# Altium integrated library Cypress Memory Static RAM.IntLib: 171 symbols (part 6 of 7)
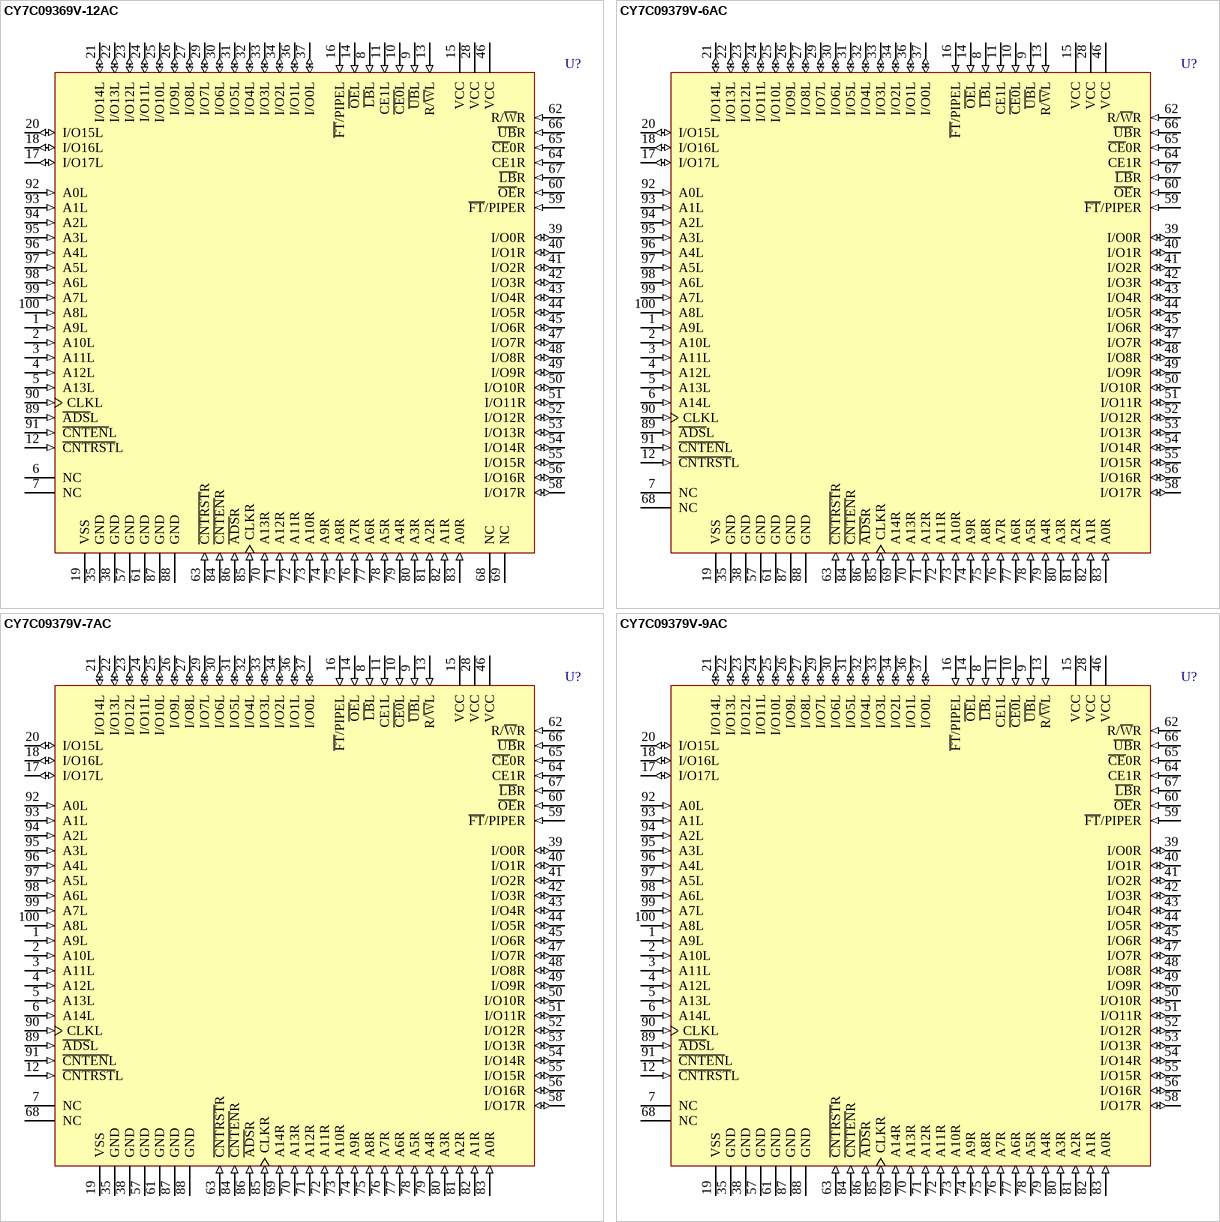
[diagram p30: symbols CY7C09369V-12AC to CY7C09379V-9AC]

## CY7C09379V-7AC
designator U?
3.3V 32K x 18 Synchronous Dual-Port Static RAM; Published: 11-Dec-2002; LatestRevisionDate: 13-Apr-2006; LatestRevisionNote: IPC-7351 Footprint Added.; DatasheetVersion: 2-Feb-2001; PackageVersion: Mar-2001; PackageReference: A100; Publisher: Altium Limited; PackageDescription: 100-Pin Thin Quad Flat Pack 0.5 mm Pitch; ComponentLink1Description: Manufacturer Link; ComponentLink1URL: http://www.cypress.com/; ComponentLink2Description: Datasheet; ComponentLink2URL: http://www.cypress.com/portal/server.pt/gateway/PTARGS_0_2_1524_209_259_43/http%3B/sjapp20.mis.cypress.com%3B7001/publishedcontent/publish/design_resources/datasheets/contents/cy7c09269v_5.pdf
footprint A100_N (Thin QFP, 100-Leads, Body 14x14mm, Pitch 0.5mm, IPC Medium Density)
footprint A100_L (Thin QFP, 100-Leads, Body 14x14mm, Pitch 0.5mm, IPC High Density)
footprint A100_M (Thin QFP, 100-Leads, Body 14x14mm, Pitch 0.5mm, IPC Low Density)
3D model CY7C09379V-A100 (100-Pin Thin Quad Flat Pack 0.5 mm Pitch)
pins: 1 A9L (in), 2 A10L (in), 3 A11L (in), 4 A12L (in), 5 A13L (in), 6 A14L (in), 7 NC, 8 ~{LB}L (in), 9 ~{UB}L (in), 10 ~{CE0}L (in), 11 CE1L (in), 12 ~{CNTRST}L (in), 13 R/~{W}L (in), 14 ~{OE}L (in), 15 VCC (power), 16 ~{FT}/PIPEL (in), 17 I/O17L (io), 18 I/O16L (io), 19 VSS (power), 20 I/O15L (io), 21 I/O14L (io), 22 I/O13L (io), 23 I/O12L (io), 24 I/O11L (io), 25 I/O10L (io), 26 I/O9L (io), 27 I/O8L (io), 28 VCC (power), 29 I/O7L (io), 30 I/O6L (io), 31 I/O5L (io), 32 I/O4L (io), 33 I/O3L (io), 34 I/O2L (io), 35 GND (power), 36 I/O1L (io), 37 I/O0L (io), 38 GND (power), 39 I/O0R (io), 40 I/O1R (io), 41 I/O2R (io), 42 I/O3R (io), 43 I/O4R (io), 44 I/O5R (io), 45 I/O6R (io), 46 VCC (power), 47 I/O7R (io), 48 I/O8R (io), 49 I/O9R (io), 50 I/O10R (io), 51 I/O11R (io), 52 I/O12R (io), 53 I/O13R (io), 54 I/O14R (io), 55 I/O15R (io), 56 I/O16R (io), 57 GND (power), 58 I/O17R (io), 59 ~{FT}/PIPER (in), 60 ~{OE}R (in), 61 GND (power), 62 R/~{W}R (in), 63 ~{CNTRST}R (in), 64 CE1R (in), 65 ~{CE}0R (in), 66 ~{UB}R (in), 67 ~{LB}R (in), 68 NC, 69 A14R (in), 70 A13R (in), 71 A12R (in), 72 A11R (in), 73 A10R (in), 74 A9R (in), 75 A8R (in), 76 A7R (in), 77 A6R (in), 78 A5R (in), 79 A4R (in), 80 A3R (in), 81 A2R (in), 82 A1R (in), 83 A0R (in), 84 ~{CNTEN}R (in), 85 CLKR (in), 86 ~{ADS}R (in), 87 GND (power), 88 GND (power), 89 ~{ADS}L (in), 90 CLKL (in), 91 ~{CNTEN}L (in), 92 A0L (in), 93 A1L (in), 94 A2L (in), 95 A3L (in), 96 A4L (in), 97 A5L (in), 98 A6L (in), 99 A7L (in), 100 A8L (in)

## CY7C09379V-9AC
designator U?
3.3V 32K x 18 Synchronous Dual-Port Static RAM; Published: 11-Dec-2002; LatestRevisionDate: 13-Apr-2006; LatestRevisionNote: IPC-7351 Footprint Added.; DatasheetVersion: 2-Feb-2001; PackageVersion: Mar-2001; PackageReference: A100; Publisher: Altium Limited; PackageDescription: 100-Pin Thin Quad Flat Pack 0.5 mm Pitch; ComponentLink1Description: Manufacturer Link; ComponentLink1URL: http://www.cypress.com/; ComponentLink2Description: Datasheet; ComponentLink2URL: http://www.cypress.com/portal/server.pt/gateway/PTARGS_0_2_1524_209_259_43/http%3B/sjapp20.mis.cypress.com%3B7001/publishedcontent/publish/design_resources/datasheets/contents/cy7c09269v_5.pdf
footprint A100_N (Thin QFP, 100-Leads, Body 14x14mm, Pitch 0.5mm, IPC Medium Density)
footprint A100_L (Thin QFP, 100-Leads, Body 14x14mm, Pitch 0.5mm, IPC High Density)
footprint A100_M (Thin QFP, 100-Leads, Body 14x14mm, Pitch 0.5mm, IPC Low Density)
3D model CY7C09379V-A100 (100-Pin Thin Quad Flat Pack 0.5 mm Pitch)
pins: 1 A9L (in), 2 A10L (in), 3 A11L (in), 4 A12L (in), 5 A13L (in), 6 A14L (in), 7 NC, 8 ~{LB}L (in), 9 ~{UB}L (in), 10 ~{CE0}L (in), 11 CE1L (in), 12 ~{CNTRST}L (in), 13 R/~{W}L (in), 14 ~{OE}L (in), 15 VCC (power), 16 ~{FT}/PIPEL (in), 17 I/O17L (io), 18 I/O16L (io), 19 VSS (power), 20 I/O15L (io), 21 I/O14L (io), 22 I/O13L (io), 23 I/O12L (io), 24 I/O11L (io), 25 I/O10L (io), 26 I/O9L (io), 27 I/O8L (io), 28 VCC (power), 29 I/O7L (io), 30 I/O6L (io), 31 I/O5L (io), 32 I/O4L (io), 33 I/O3L (io), 34 I/O2L (io), 35 GND (power), 36 I/O1L (io), 37 I/O0L (io), 38 GND (power), 39 I/O0R (io), 40 I/O1R (io), 41 I/O2R (io), 42 I/O3R (io), 43 I/O4R (io), 44 I/O5R (io), 45 I/O6R (io), 46 VCC (power), 47 I/O7R (io), 48 I/O8R (io), 49 I/O9R (io), 50 I/O10R (io), 51 I/O11R (io), 52 I/O12R (io), 53 I/O13R (io), 54 I/O14R (io), 55 I/O15R (io), 56 I/O16R (io), 57 GND (power), 58 I/O17R (io), 59 ~{FT}/PIPER (in), 60 ~{OE}R (in), 61 GND (power), 62 R/~{W}R (in), 63 ~{CNTRST}R (in), 64 CE1R (in), 65 ~{CE}0R (in), 66 ~{UB}R (in), 67 ~{LB}R (in), 68 NC, 69 A14R (in), 70 A13R (in), 71 A12R (in), 72 A11R (in), 73 A10R (in), 74 A9R (in), 75 A8R (in), 76 A7R (in), 77 A6R (in), 78 A5R (in), 79 A4R (in), 80 A3R (in), 81 A2R (in), 82 A1R (in), 83 A0R (in), 84 ~{CNTEN}R (in), 85 CLKR (in), 86 ~{ADS}R (in), 87 GND (power), 88 GND (power), 89 ~{ADS}L (in), 90 CLKL (in), 91 ~{CNTEN}L (in), 92 A0L (in), 93 A1L (in), 94 A2L (in), 95 A3L (in), 96 A4L (in), 97 A5L (in), 98 A6L (in), 99 A7L (in), 100 A8L (in)

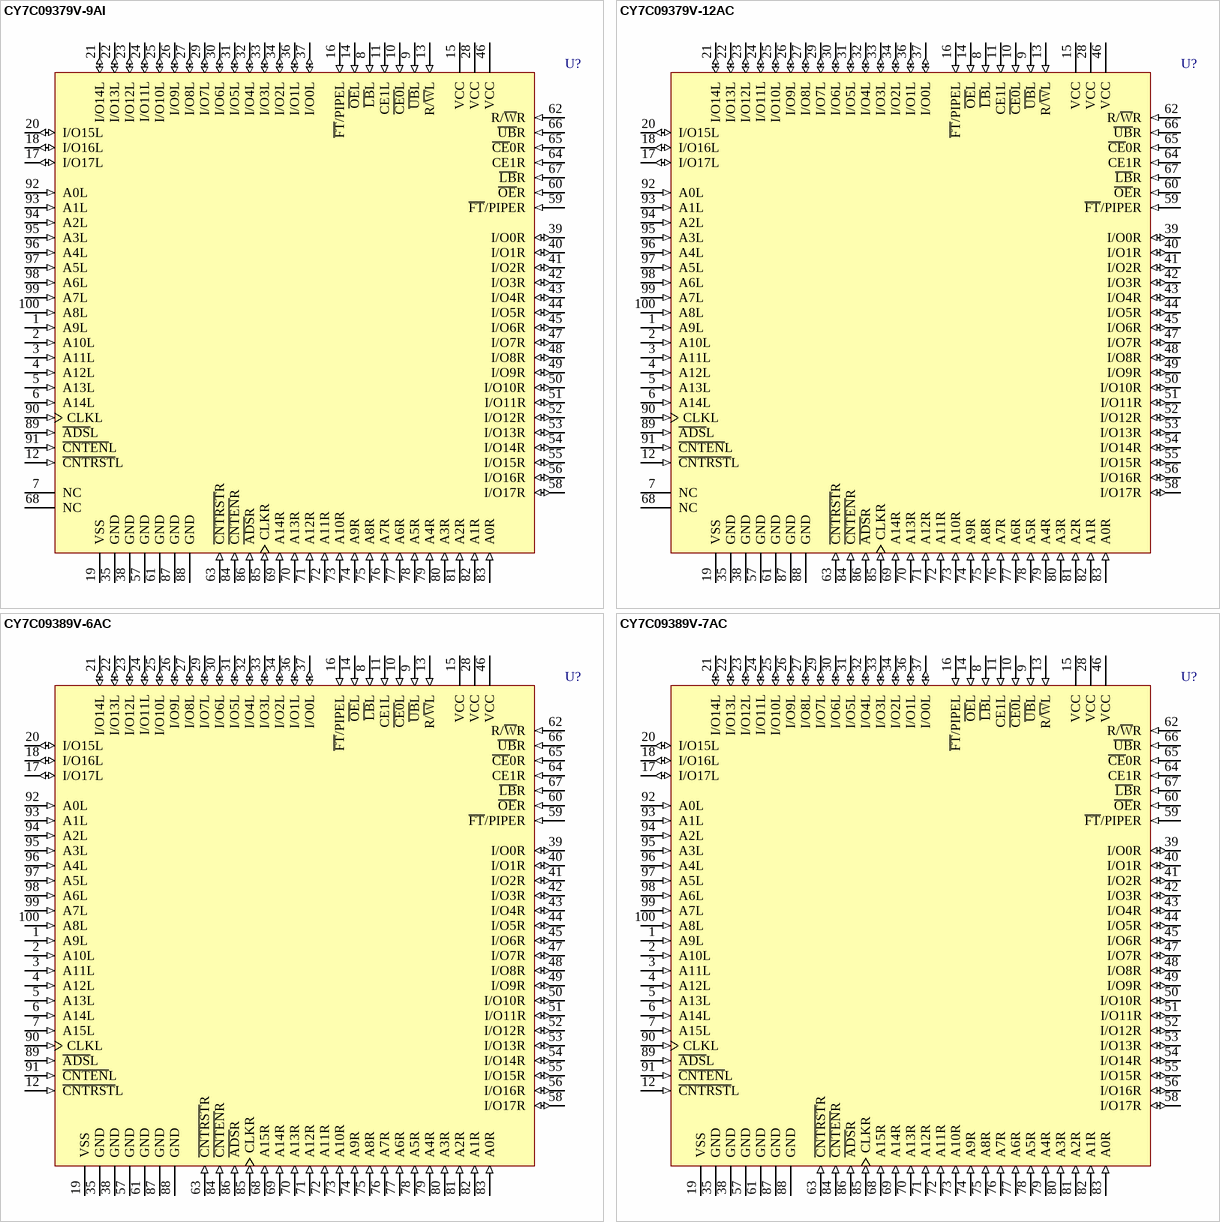
[diagram p22: symbols CY7C09379V-9AI to CY7C09389V-7AC]

## CY7C09379V-9AI
designator U?
3.3V 32K x 18 Synchronous Dual-Port Static RAM; Published: 11-Dec-2002; LatestRevisionDate: 13-Apr-2006; LatestRevisionNote: IPC-7351 Footprint Added.; DatasheetVersion: 2-Feb-2001; PackageVersion: Mar-2001; PackageReference: A100; Publisher: Altium Limited; PackageDescription: 100-Pin Thin Quad Flat Pack 0.5 mm Pitch; ComponentLink1Description: Manufacturer Link; ComponentLink1URL: http://www.cypress.com/; ComponentLink2Description: Datasheet; ComponentLink2URL: http://www.cypress.com/portal/server.pt/gateway/PTARGS_0_2_1524_209_259_43/http%3B/sjapp20.mis.cypress.com%3B7001/publishedcontent/publish/design_resources/datasheets/contents/cy7c09269v_5.pdf
footprint A100_N (Thin QFP, 100-Leads, Body 14x14mm, Pitch 0.5mm, IPC Medium Density)
footprint A100_L (Thin QFP, 100-Leads, Body 14x14mm, Pitch 0.5mm, IPC High Density)
footprint A100_M (Thin QFP, 100-Leads, Body 14x14mm, Pitch 0.5mm, IPC Low Density)
3D model CY7C09379V-A100 (100-Pin Thin Quad Flat Pack 0.5 mm Pitch)
pins: 1 A9L (in), 2 A10L (in), 3 A11L (in), 4 A12L (in), 5 A13L (in), 6 A14L (in), 7 NC, 8 ~{LB}L (in), 9 ~{UB}L (in), 10 ~{CE0}L (in), 11 CE1L (in), 12 ~{CNTRST}L (in), 13 R/~{W}L (in), 14 ~{OE}L (in), 15 VCC (power), 16 ~{FT}/PIPEL (in), 17 I/O17L (io), 18 I/O16L (io), 19 VSS (power), 20 I/O15L (io), 21 I/O14L (io), 22 I/O13L (io), 23 I/O12L (io), 24 I/O11L (io), 25 I/O10L (io), 26 I/O9L (io), 27 I/O8L (io), 28 VCC (power), 29 I/O7L (io), 30 I/O6L (io), 31 I/O5L (io), 32 I/O4L (io), 33 I/O3L (io), 34 I/O2L (io), 35 GND (power), 36 I/O1L (io), 37 I/O0L (io), 38 GND (power), 39 I/O0R (io), 40 I/O1R (io), 41 I/O2R (io), 42 I/O3R (io), 43 I/O4R (io), 44 I/O5R (io), 45 I/O6R (io), 46 VCC (power), 47 I/O7R (io), 48 I/O8R (io), 49 I/O9R (io), 50 I/O10R (io), 51 I/O11R (io), 52 I/O12R (io), 53 I/O13R (io), 54 I/O14R (io), 55 I/O15R (io), 56 I/O16R (io), 57 GND (power), 58 I/O17R (io), 59 ~{FT}/PIPER (in), 60 ~{OE}R (in), 61 GND (power), 62 R/~{W}R (in), 63 ~{CNTRST}R (in), 64 CE1R (in), 65 ~{CE}0R (in), 66 ~{UB}R (in), 67 ~{LB}R (in), 68 NC, 69 A14R (in), 70 A13R (in), 71 A12R (in), 72 A11R (in), 73 A10R (in), 74 A9R (in), 75 A8R (in), 76 A7R (in), 77 A6R (in), 78 A5R (in), 79 A4R (in), 80 A3R (in), 81 A2R (in), 82 A1R (in), 83 A0R (in), 84 ~{CNTEN}R (in), 85 CLKR (in), 86 ~{ADS}R (in), 87 GND (power), 88 GND (power), 89 ~{ADS}L (in), 90 CLKL (in), 91 ~{CNTEN}L (in), 92 A0L (in), 93 A1L (in), 94 A2L (in), 95 A3L (in), 96 A4L (in), 97 A5L (in), 98 A6L (in), 99 A7L (in), 100 A8L (in)

## CY7C09379V-12AC
designator U?
3.3V 32K x 18 Synchronous Dual-Port Static RAM; Published: 11-Dec-2002; LatestRevisionDate: 13-Apr-2006; LatestRevisionNote: IPC-7351 Footprint Added.; DatasheetVersion: 2-Feb-2001; PackageVersion: Mar-2001; PackageReference: A100; Publisher: Altium Limited; PackageDescription: 100-Pin Thin Quad Flat Pack 0.5 mm Pitch; ComponentLink1Description: Manufacturer Link; ComponentLink1URL: http://www.cypress.com/; ComponentLink2Description: Datasheet; ComponentLink2URL: http://www.cypress.com/portal/server.pt/gateway/PTARGS_0_2_1524_209_259_43/http%3B/sjapp20.mis.cypress.com%3B7001/publishedcontent/publish/design_resources/datasheets/contents/cy7c09269v_5.pdf
footprint A100_N (Thin QFP, 100-Leads, Body 14x14mm, Pitch 0.5mm, IPC Medium Density)
footprint A100_L (Thin QFP, 100-Leads, Body 14x14mm, Pitch 0.5mm, IPC High Density)
footprint A100_M (Thin QFP, 100-Leads, Body 14x14mm, Pitch 0.5mm, IPC Low Density)
3D model CY7C09379V-A100 (100-Pin Thin Quad Flat Pack 0.5 mm Pitch)
pins: 1 A9L (in), 2 A10L (in), 3 A11L (in), 4 A12L (in), 5 A13L (in), 6 A14L (in), 7 NC, 8 ~{LB}L (in), 9 ~{UB}L (in), 10 ~{CE0}L (in), 11 CE1L (in), 12 ~{CNTRST}L (in), 13 R/~{W}L (in), 14 ~{OE}L (in), 15 VCC (power), 16 ~{FT}/PIPEL (in), 17 I/O17L (io), 18 I/O16L (io), 19 VSS (power), 20 I/O15L (io), 21 I/O14L (io), 22 I/O13L (io), 23 I/O12L (io), 24 I/O11L (io), 25 I/O10L (io), 26 I/O9L (io), 27 I/O8L (io), 28 VCC (power), 29 I/O7L (io), 30 I/O6L (io), 31 I/O5L (io), 32 I/O4L (io), 33 I/O3L (io), 34 I/O2L (io), 35 GND (power), 36 I/O1L (io), 37 I/O0L (io), 38 GND (power), 39 I/O0R (io), 40 I/O1R (io), 41 I/O2R (io), 42 I/O3R (io), 43 I/O4R (io), 44 I/O5R (io), 45 I/O6R (io), 46 VCC (power), 47 I/O7R (io), 48 I/O8R (io), 49 I/O9R (io), 50 I/O10R (io), 51 I/O11R (io), 52 I/O12R (io), 53 I/O13R (io), 54 I/O14R (io), 55 I/O15R (io), 56 I/O16R (io), 57 GND (power), 58 I/O17R (io), 59 ~{FT}/PIPER (in), 60 ~{OE}R (in), 61 GND (power), 62 R/~{W}R (in), 63 ~{CNTRST}R (in), 64 CE1R (in), 65 ~{CE}0R (in), 66 ~{UB}R (in), 67 ~{LB}R (in), 68 NC, 69 A14R (in), 70 A13R (in), 71 A12R (in), 72 A11R (in), 73 A10R (in), 74 A9R (in), 75 A8R (in), 76 A7R (in), 77 A6R (in), 78 A5R (in), 79 A4R (in), 80 A3R (in), 81 A2R (in), 82 A1R (in), 83 A0R (in), 84 ~{CNTEN}R (in), 85 CLKR (in), 86 ~{ADS}R (in), 87 GND (power), 88 GND (power), 89 ~{ADS}L (in), 90 CLKL (in), 91 ~{CNTEN}L (in), 92 A0L (in), 93 A1L (in), 94 A2L (in), 95 A3L (in), 96 A4L (in), 97 A5L (in), 98 A6L (in), 99 A7L (in), 100 A8L (in)

## CY7C09389V-6AC
designator U?
3.3V 64K x 18 Synchronous Dual-Port Static RAM; Published: 11-Dec-2002; LatestRevisionDate: 13-Apr-2006; LatestRevisionNote: IPC-7351 Footprint Added.; DatasheetVersion: 2-Feb-2001; PackageVersion: Mar-2001; PackageReference: A100; Publisher: Altium Limited; PackageDescription: 100-Pin Thin Quad Flat Pack 0.5 mm Pitch; ComponentLink1Description: Manufacturer Link; ComponentLink1URL: http://www.cypress.com/; ComponentLink2Description: Datasheet; ComponentLink2URL: http://www.cypress.com/portal/server.pt/gateway/PTARGS_0_2_1524_209_259_43/http%3B/sjapp20.mis.cypress.com%3B7001/publishedcontent/publish/design_resources/datasheets/contents/cy7c09269v_5.pdf
footprint A100_N (Thin QFP, 100-Leads, Body 14x14mm, Pitch 0.5mm, IPC Medium Density)
footprint A100_L (Thin QFP, 100-Leads, Body 14x14mm, Pitch 0.5mm, IPC High Density)
footprint A100_M (Thin QFP, 100-Leads, Body 14x14mm, Pitch 0.5mm, IPC Low Density)
3D model CY7C09389V-A100 (100-Pin Thin Quad Flat Pack 0.5 mm Pitch)
pins: 1 A9L (in), 2 A10L (in), 3 A11L (in), 4 A12L (in), 5 A13L (in), 6 A14L (in), 7 A15L (in), 8 ~{LB}L (in), 9 ~{UB}L (in), 10 ~{CE0}L (in), 11 CE1L (in), 12 ~{CNTRST}L (in), 13 R/~{W}L (in), 14 ~{OE}L (in), 15 VCC (power), 16 ~{FT}/PIPEL (in), 17 I/O17L (io), 18 I/O16L (io), 19 VSS (power), 20 I/O15L (io), 21 I/O14L (io), 22 I/O13L (io), 23 I/O12L (io), 24 I/O11L (io), 25 I/O10L (io), 26 I/O9L (io), 27 I/O8L (io), 28 VCC (power), 29 I/O7L (io), 30 I/O6L (io), 31 I/O5L (io), 32 I/O4L (io), 33 I/O3L (io), 34 I/O2L (io), 35 GND (power), 36 I/O1L (io), 37 I/O0L (io), 38 GND (power), 39 I/O0R (io), 40 I/O1R (io), 41 I/O2R (io), 42 I/O3R (io), 43 I/O4R (io), 44 I/O5R (io), 45 I/O6R (io), 46 VCC (power), 47 I/O7R (io), 48 I/O8R (io), 49 I/O9R (io), 50 I/O10R (io), 51 I/O11R (io), 52 I/O12R (io), 53 I/O13R (io), 54 I/O14R (io), 55 I/O15R (io), 56 I/O16R (io), 57 GND (power), 58 I/O17R (io), 59 ~{FT}/PIPER (in), 60 ~{OE}R (in), 61 GND (power), 62 R/~{W}R (in), 63 ~{CNTRST}R (in), 64 CE1R (in), 65 ~{CE}0R (in), 66 ~{UB}R (in), 67 ~{LB}R (in), 68 A15R (in), 69 A14R (in), 70 A13R (in), 71 A12R (in), 72 A11R (in), 73 A10R (in), 74 A9R (in), 75 A8R (in), 76 A7R (in), 77 A6R (in), 78 A5R (in), 79 A4R (in), 80 A3R (in), 81 A2R (in), 82 A1R (in), 83 A0R (in), 84 ~{CNTEN}R (in), 85 CLKR (in), 86 ~{ADS}R (in), 87 GND (power), 88 GND (power), 89 ~{ADS}L (in), 90 CLKL (in), 91 ~{CNTEN}L (in), 92 A0L (in), 93 A1L (in), 94 A2L (in), 95 A3L (in), 96 A4L (in), 97 A5L (in), 98 A6L (in), 99 A7L (in), 100 A8L (in)

## CY7C09389V-7AC
designator U?
3.3V 64K x 18 Synchronous Dual-Port Static RAM; Published: 11-Dec-2002; LatestRevisionDate: 13-Apr-2006; LatestRevisionNote: IPC-7351 Footprint Added.; DatasheetVersion: 2-Feb-2001; PackageVersion: Mar-2001; PackageReference: A100; Publisher: Altium Limited; PackageDescription: 100-Pin Thin Quad Flat Pack 0.5 mm Pitch; ComponentLink1Description: Manufacturer Link; ComponentLink1URL: http://www.cypress.com/; ComponentLink2Description: Datasheet; ComponentLink2URL: http://www.cypress.com/portal/server.pt/gateway/PTARGS_0_2_1524_209_259_43/http%3B/sjapp20.mis.cypress.com%3B7001/publishedcontent/publish/design_resources/datasheets/contents/cy7c09269v_5.pdf
footprint A100_N (Thin QFP, 100-Leads, Body 14x14mm, Pitch 0.5mm, IPC Medium Density)
footprint A100_L (Thin QFP, 100-Leads, Body 14x14mm, Pitch 0.5mm, IPC High Density)
footprint A100_M (Thin QFP, 100-Leads, Body 14x14mm, Pitch 0.5mm, IPC Low Density)
3D model CY7C09389V-A100 (100-Pin Thin Quad Flat Pack 0.5 mm Pitch)
pins: 1 A9L (in), 2 A10L (in), 3 A11L (in), 4 A12L (in), 5 A13L (in), 6 A14L (in), 7 A15L (in), 8 ~{LB}L (in), 9 ~{UB}L (in), 10 ~{CE0}L (in), 11 CE1L (in), 12 ~{CNTRST}L (in), 13 R/~{W}L (in), 14 ~{OE}L (in), 15 VCC (power), 16 ~{FT}/PIPEL (in), 17 I/O17L (io), 18 I/O16L (io), 19 VSS (power), 20 I/O15L (io), 21 I/O14L (io), 22 I/O13L (io), 23 I/O12L (io), 24 I/O11L (io), 25 I/O10L (io), 26 I/O9L (io), 27 I/O8L (io), 28 VCC (power), 29 I/O7L (io), 30 I/O6L (io), 31 I/O5L (io), 32 I/O4L (io), 33 I/O3L (io), 34 I/O2L (io), 35 GND (power), 36 I/O1L (io), 37 I/O0L (io), 38 GND (power), 39 I/O0R (io), 40 I/O1R (io), 41 I/O2R (io), 42 I/O3R (io), 43 I/O4R (io), 44 I/O5R (io), 45 I/O6R (io), 46 VCC (power), 47 I/O7R (io), 48 I/O8R (io), 49 I/O9R (io), 50 I/O10R (io), 51 I/O11R (io), 52 I/O12R (io), 53 I/O13R (io), 54 I/O14R (io), 55 I/O15R (io), 56 I/O16R (io), 57 GND (power), 58 I/O17R (io), 59 ~{FT}/PIPER (in), 60 ~{OE}R (in), 61 GND (power), 62 R/~{W}R (in), 63 ~{CNTRST}R (in), 64 CE1R (in), 65 ~{CE}0R (in), 66 ~{UB}R (in), 67 ~{LB}R (in), 68 A15R (in), 69 A14R (in), 70 A13R (in), 71 A12R (in), 72 A11R (in), 73 A10R (in), 74 A9R (in), 75 A8R (in), 76 A7R (in), 77 A6R (in), 78 A5R (in), 79 A4R (in), 80 A3R (in), 81 A2R (in), 82 A1R (in), 83 A0R (in), 84 ~{CNTEN}R (in), 85 CLKR (in), 86 ~{ADS}R (in), 87 GND (power), 88 GND (power), 89 ~{ADS}L (in), 90 CLKL (in), 91 ~{CNTEN}L (in), 92 A0L (in), 93 A1L (in), 94 A2L (in), 95 A3L (in), 96 A4L (in), 97 A5L (in), 98 A6L (in), 99 A7L (in), 100 A8L (in)

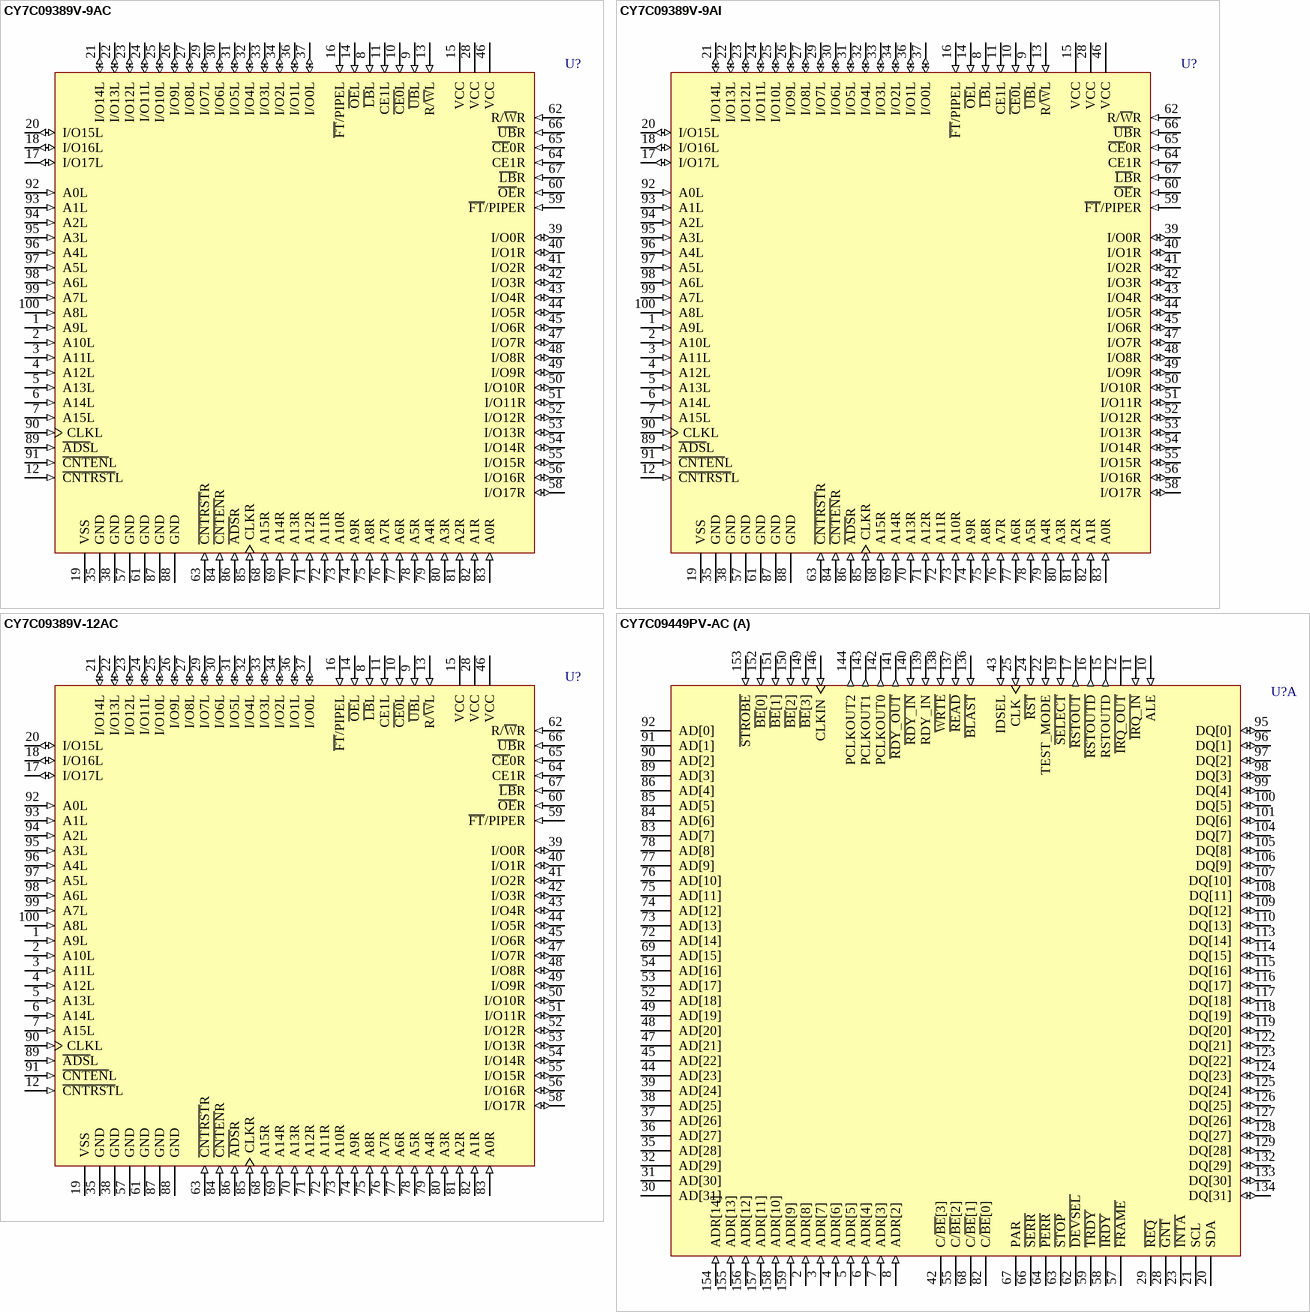
[diagram p23: symbols CY7C09389V-9AC to CY7C09449PV-AC]

## CY7C09389V-9AC
designator U?
3.3V 64K x 18 Synchronous Dual-Port Static RAM; Published: 11-Dec-2002; LatestRevisionDate: 13-Apr-2006; LatestRevisionNote: IPC-7351 Footprint Added.; DatasheetVersion: 2-Feb-2001; PackageVersion: Mar-2001; PackageReference: A100; Publisher: Altium Limited; PackageDescription: 100-Pin Thin Quad Flat Pack 0.5 mm Pitch; ComponentLink1Description: Manufacturer Link; ComponentLink1URL: http://www.cypress.com/; ComponentLink2Description: Datasheet; ComponentLink2URL: http://www.cypress.com/portal/server.pt/gateway/PTARGS_0_2_1524_209_259_43/http%3B/sjapp20.mis.cypress.com%3B7001/publishedcontent/publish/design_resources/datasheets/contents/cy7c09269v_5.pdf
footprint A100_N (Thin QFP, 100-Leads, Body 14x14mm, Pitch 0.5mm, IPC Medium Density)
footprint A100_L (Thin QFP, 100-Leads, Body 14x14mm, Pitch 0.5mm, IPC High Density)
footprint A100_M (Thin QFP, 100-Leads, Body 14x14mm, Pitch 0.5mm, IPC Low Density)
3D model CY7C09389V-A100 (100-Pin Thin Quad Flat Pack 0.5 mm Pitch)
pins: 1 A9L (in), 2 A10L (in), 3 A11L (in), 4 A12L (in), 5 A13L (in), 6 A14L (in), 7 A15L (in), 8 ~{LB}L (in), 9 ~{UB}L (in), 10 ~{CE0}L (in), 11 CE1L (in), 12 ~{CNTRST}L (in), 13 R/~{W}L (in), 14 ~{OE}L (in), 15 VCC (power), 16 ~{FT}/PIPEL (in), 17 I/O17L (io), 18 I/O16L (io), 19 VSS (power), 20 I/O15L (io), 21 I/O14L (io), 22 I/O13L (io), 23 I/O12L (io), 24 I/O11L (io), 25 I/O10L (io), 26 I/O9L (io), 27 I/O8L (io), 28 VCC (power), 29 I/O7L (io), 30 I/O6L (io), 31 I/O5L (io), 32 I/O4L (io), 33 I/O3L (io), 34 I/O2L (io), 35 GND (power), 36 I/O1L (io), 37 I/O0L (io), 38 GND (power), 39 I/O0R (io), 40 I/O1R (io), 41 I/O2R (io), 42 I/O3R (io), 43 I/O4R (io), 44 I/O5R (io), 45 I/O6R (io), 46 VCC (power), 47 I/O7R (io), 48 I/O8R (io), 49 I/O9R (io), 50 I/O10R (io), 51 I/O11R (io), 52 I/O12R (io), 53 I/O13R (io), 54 I/O14R (io), 55 I/O15R (io), 56 I/O16R (io), 57 GND (power), 58 I/O17R (io), 59 ~{FT}/PIPER (in), 60 ~{OE}R (in), 61 GND (power), 62 R/~{W}R (in), 63 ~{CNTRST}R (in), 64 CE1R (in), 65 ~{CE}0R (in), 66 ~{UB}R (in), 67 ~{LB}R (in), 68 A15R (in), 69 A14R (in), 70 A13R (in), 71 A12R (in), 72 A11R (in), 73 A10R (in), 74 A9R (in), 75 A8R (in), 76 A7R (in), 77 A6R (in), 78 A5R (in), 79 A4R (in), 80 A3R (in), 81 A2R (in), 82 A1R (in), 83 A0R (in), 84 ~{CNTEN}R (in), 85 CLKR (in), 86 ~{ADS}R (in), 87 GND (power), 88 GND (power), 89 ~{ADS}L (in), 90 CLKL (in), 91 ~{CNTEN}L (in), 92 A0L (in), 93 A1L (in), 94 A2L (in), 95 A3L (in), 96 A4L (in), 97 A5L (in), 98 A6L (in), 99 A7L (in), 100 A8L (in)

## CY7C09389V-9AI
designator U?
3.3V 64K x 18 Synchronous Dual-Port Static RAM; Published: 11-Dec-2002; LatestRevisionDate: 13-Apr-2006; LatestRevisionNote: IPC-7351 Footprint Added.; DatasheetVersion: 2-Feb-2001; PackageVersion: Mar-2001; PackageReference: A100; Publisher: Altium Limited; PackageDescription: 100-Pin Thin Quad Flat Pack 0.5 mm Pitch; ComponentLink1Description: Manufacturer Link; ComponentLink1URL: http://www.cypress.com/; ComponentLink2Description: Datasheet; ComponentLink2URL: http://www.cypress.com/portal/server.pt/gateway/PTARGS_0_2_1524_209_259_43/http%3B/sjapp20.mis.cypress.com%3B7001/publishedcontent/publish/design_resources/datasheets/contents/cy7c09269v_5.pdf
footprint A100_N (Thin QFP, 100-Leads, Body 14x14mm, Pitch 0.5mm, IPC Medium Density)
footprint A100_L (Thin QFP, 100-Leads, Body 14x14mm, Pitch 0.5mm, IPC High Density)
footprint A100_M (Thin QFP, 100-Leads, Body 14x14mm, Pitch 0.5mm, IPC Low Density)
3D model CY7C09389V-A100 (100-Pin Thin Quad Flat Pack 0.5 mm Pitch)
pins: 1 A9L (in), 2 A10L (in), 3 A11L (in), 4 A12L (in), 5 A13L (in), 6 A14L (in), 7 A15L (in), 8 ~{LB}L (in), 9 ~{UB}L (in), 10 ~{CE0}L (in), 11 CE1L (in), 12 ~{CNTRST}L (in), 13 R/~{W}L (in), 14 ~{OE}L (in), 15 VCC (power), 16 ~{FT}/PIPEL (in), 17 I/O17L (io), 18 I/O16L (io), 19 VSS (power), 20 I/O15L (io), 21 I/O14L (io), 22 I/O13L (io), 23 I/O12L (io), 24 I/O11L (io), 25 I/O10L (io), 26 I/O9L (io), 27 I/O8L (io), 28 VCC (power), 29 I/O7L (io), 30 I/O6L (io), 31 I/O5L (io), 32 I/O4L (io), 33 I/O3L (io), 34 I/O2L (io), 35 GND (power), 36 I/O1L (io), 37 I/O0L (io), 38 GND (power), 39 I/O0R (io), 40 I/O1R (io), 41 I/O2R (io), 42 I/O3R (io), 43 I/O4R (io), 44 I/O5R (io), 45 I/O6R (io), 46 VCC (power), 47 I/O7R (io), 48 I/O8R (io), 49 I/O9R (io), 50 I/O10R (io), 51 I/O11R (io), 52 I/O12R (io), 53 I/O13R (io), 54 I/O14R (io), 55 I/O15R (io), 56 I/O16R (io), 57 GND (power), 58 I/O17R (io), 59 ~{FT}/PIPER (in), 60 ~{OE}R (in), 61 GND (power), 62 R/~{W}R (in), 63 ~{CNTRST}R (in), 64 CE1R (in), 65 ~{CE}0R (in), 66 ~{UB}R (in), 67 ~{LB}R (in), 68 A15R (in), 69 A14R (in), 70 A13R (in), 71 A12R (in), 72 A11R (in), 73 A10R (in), 74 A9R (in), 75 A8R (in), 76 A7R (in), 77 A6R (in), 78 A5R (in), 79 A4R (in), 80 A3R (in), 81 A2R (in), 82 A1R (in), 83 A0R (in), 84 ~{CNTEN}R (in), 85 CLKR (in), 86 ~{ADS}R (in), 87 GND (power), 88 GND (power), 89 ~{ADS}L (in), 90 CLKL (in), 91 ~{CNTEN}L (in), 92 A0L (in), 93 A1L (in), 94 A2L (in), 95 A3L (in), 96 A4L (in), 97 A5L (in), 98 A6L (in), 99 A7L (in), 100 A8L (in)

## CY7C09389V-12AC
designator U?
3.3V 64K x 18 Synchronous Dual-Port Static RAM; Published: 11-Dec-2002; LatestRevisionDate: 13-Apr-2006; LatestRevisionNote: IPC-7351 Footprint Added.; DatasheetVersion: 2-Feb-2001; PackageVersion: Mar-2001; PackageReference: A100; Publisher: Altium Limited; PackageDescription: 100-Pin Thin Quad Flat Pack 0.5 mm Pitch; ComponentLink1Description: Manufacturer Link; ComponentLink1URL: http://www.cypress.com/; ComponentLink2Description: Datasheet; ComponentLink2URL: http://www.cypress.com/portal/server.pt/gateway/PTARGS_0_2_1524_209_259_43/http%3B/sjapp20.mis.cypress.com%3B7001/publishedcontent/publish/design_resources/datasheets/contents/cy7c09269v_5.pdf
footprint A100_N (Thin QFP, 100-Leads, Body 14x14mm, Pitch 0.5mm, IPC Medium Density)
footprint A100_L (Thin QFP, 100-Leads, Body 14x14mm, Pitch 0.5mm, IPC High Density)
footprint A100_M (Thin QFP, 100-Leads, Body 14x14mm, Pitch 0.5mm, IPC Low Density)
3D model CY7C09389V-A100 (100-Pin Thin Quad Flat Pack 0.5 mm Pitch)
pins: 1 A9L (in), 2 A10L (in), 3 A11L (in), 4 A12L (in), 5 A13L (in), 6 A14L (in), 7 A15L (in), 8 ~{LB}L (in), 9 ~{UB}L (in), 10 ~{CE0}L (in), 11 CE1L (in), 12 ~{CNTRST}L (in), 13 R/~{W}L (in), 14 ~{OE}L (in), 15 VCC (power), 16 ~{FT}/PIPEL (in), 17 I/O17L (io), 18 I/O16L (io), 19 VSS (power), 20 I/O15L (io), 21 I/O14L (io), 22 I/O13L (io), 23 I/O12L (io), 24 I/O11L (io), 25 I/O10L (io), 26 I/O9L (io), 27 I/O8L (io), 28 VCC (power), 29 I/O7L (io), 30 I/O6L (io), 31 I/O5L (io), 32 I/O4L (io), 33 I/O3L (io), 34 I/O2L (io), 35 GND (power), 36 I/O1L (io), 37 I/O0L (io), 38 GND (power), 39 I/O0R (io), 40 I/O1R (io), 41 I/O2R (io), 42 I/O3R (io), 43 I/O4R (io), 44 I/O5R (io), 45 I/O6R (io), 46 VCC (power), 47 I/O7R (io), 48 I/O8R (io), 49 I/O9R (io), 50 I/O10R (io), 51 I/O11R (io), 52 I/O12R (io), 53 I/O13R (io), 54 I/O14R (io), 55 I/O15R (io), 56 I/O16R (io), 57 GND (power), 58 I/O17R (io), 59 ~{FT}/PIPER (in), 60 ~{OE}R (in), 61 GND (power), 62 R/~{W}R (in), 63 ~{CNTRST}R (in), 64 CE1R (in), 65 ~{CE}0R (in), 66 ~{UB}R (in), 67 ~{LB}R (in), 68 A15R (in), 69 A14R (in), 70 A13R (in), 71 A12R (in), 72 A11R (in), 73 A10R (in), 74 A9R (in), 75 A8R (in), 76 A7R (in), 77 A6R (in), 78 A5R (in), 79 A4R (in), 80 A3R (in), 81 A2R (in), 82 A1R (in), 83 A0R (in), 84 ~{CNTEN}R (in), 85 CLKR (in), 86 ~{ADS}R (in), 87 GND (power), 88 GND (power), 89 ~{ADS}L (in), 90 CLKL (in), 91 ~{CNTEN}L (in), 92 A0L (in), 93 A1L (in), 94 A2L (in), 95 A3L (in), 96 A4L (in), 97 A5L (in), 98 A6L (in), 99 A7L (in), 100 A8L (in)

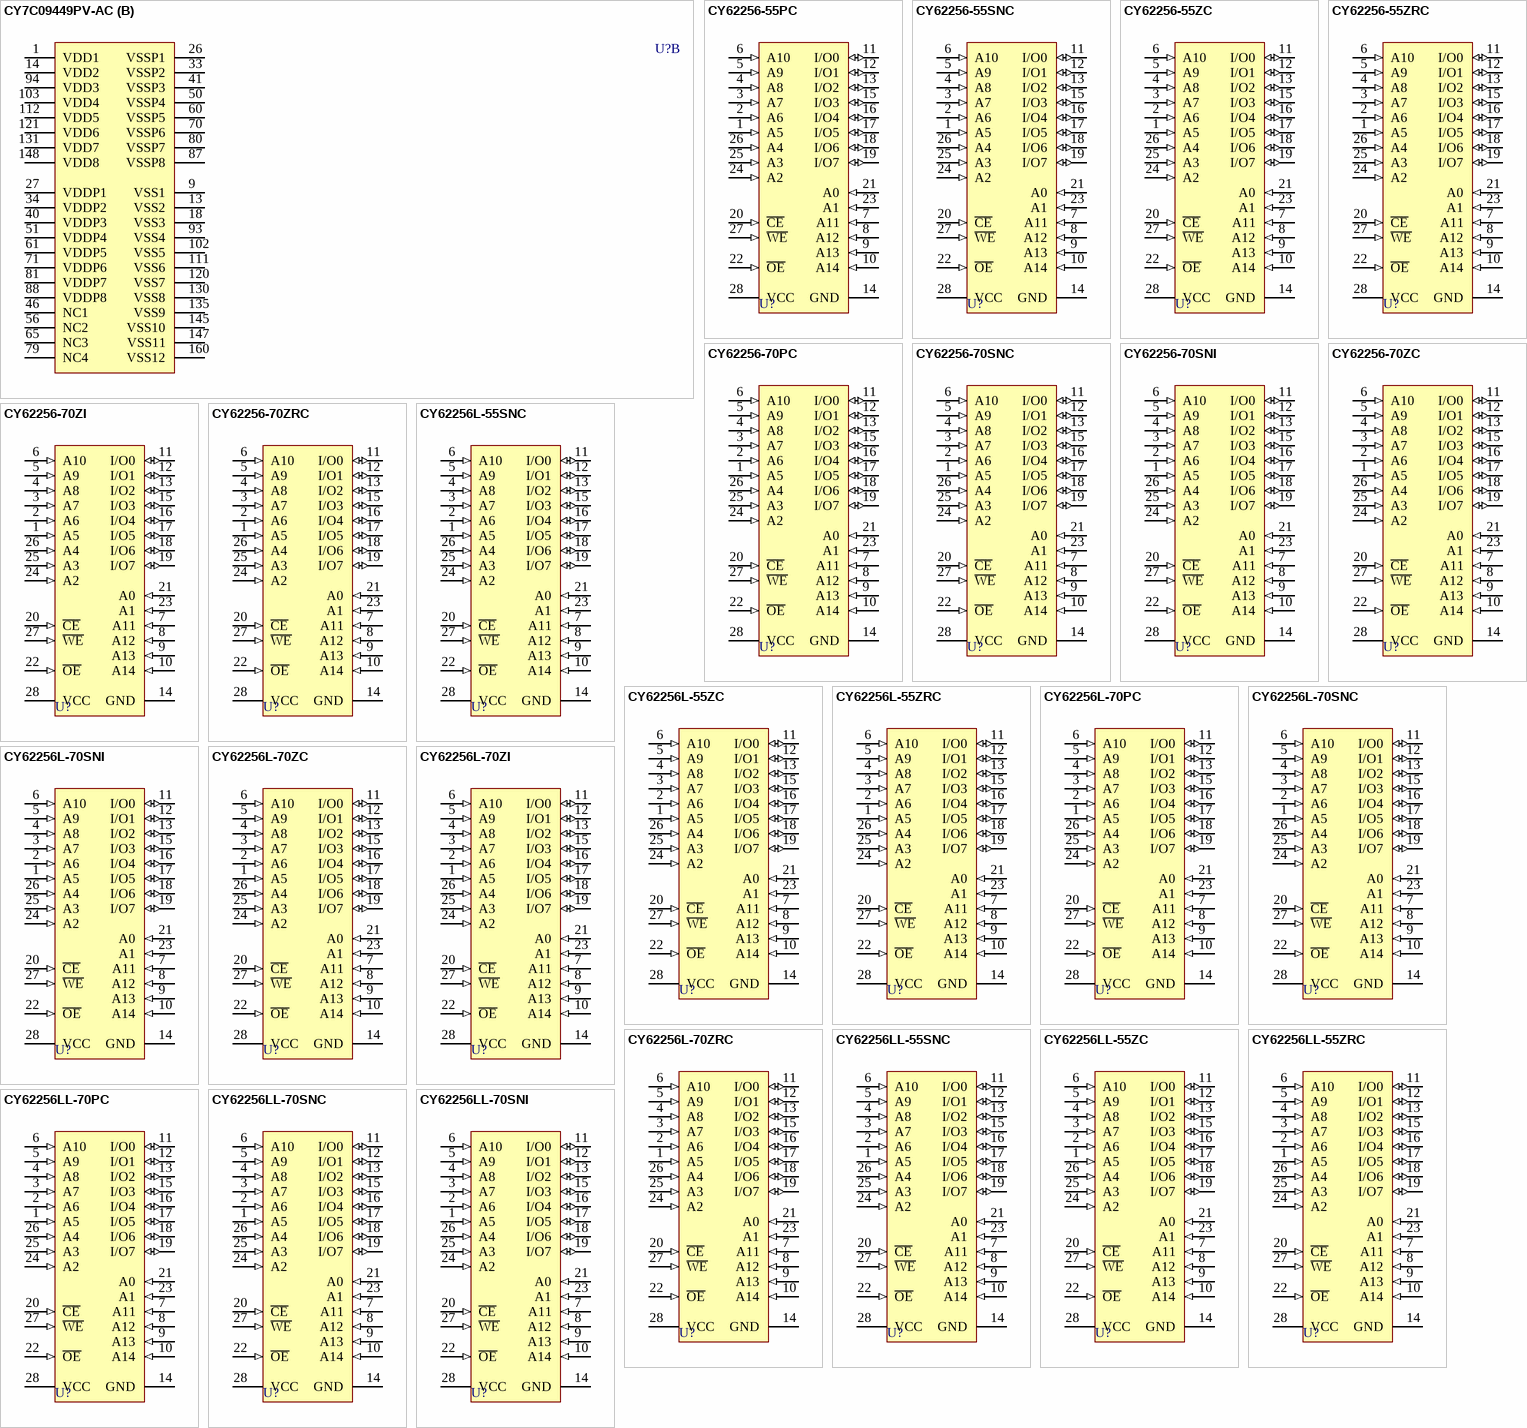
[diagram p24: symbols CY7C09449PV-AC to CY62256LL-70SNI]

## CY7C09449PV-AC
designator U?
128K Bit Dual-Port SRAM with PCI Bus Controller; Published: 11-Dec-2002; LatestRevisionDate: 13-Apr-2006; LatestRevisionNote: IPC-7351 Footprint Added.; DatasheetVersion: 19-Oct-2000; PackageVersion: Oct-2000; PackageReference: TQFP160; Publisher: Altium Limited; PackageDescription: 160-Pin Thin Quad Flat Pack 0.5 mm Pitch; ComponentLink1Description: Manufacturer Link; ComponentLink1URL: http://www.cypress.com/; ComponentLink2Description: Datasheet; ComponentLink2URL: http://www.cypress.com/portal/server.pt/gateway/PTARGS_0_2_1524_209_259_43/http%3B/sjapp20.mis.cypress.com%3B7001/publishedcontent/publish/design_resources/datasheets/contents/cy7c09449pv_5.pdf
footprint TQFP160_N (Thin QFP, 160-Leads, Body 24x24mm, Pitch 0.5mm, IPC Medium Density)
footprint TQFP160_L (Thin QFP, 160-Leads, Body 24x24mm, Pitch 0.5mm, IPC High Density)
footprint TQFP160_M (Thin QFP, 160-Leads, Body 24x24mm, Pitch 0.5mm, IPC Low Density)
3D model CY7C09449PV-TQFP160 (160-Pin Thin Quad Flat Pack 0.5 mm Pitch)
part A pins: 2 ADR[8] (in), 3 ADR[7] (in), 4 ADR[6] (in), 5 ADR[5] (in), 6 ADR[4] (in), 7 ADR[3] (in), 8 ADR[2] (in), 10 ALE (in), 11 ~{IRQ_IN} (in), 12 ~{IRQ_OUT} (hiz), 15 RSTOUTD (out), 16 ~{RSTOUTD} (out), 17 ~{RSTOUT} (out), 19 ~{SELECT} (in), 20 SDA (oc), 21 SCL (oc), 22 TEST_MODE (in), 23 ~{INTA} (oc), 24 ~{RST} (in), 25 CLK (in), 28 ~{GNT} (hiz), 29 ~{REQ} (hiz), 30 AD[31] (hiz), 31 AD[30] (hiz), 32 AD[29] (hiz), 35 AD[28] (hiz), 36 AD[27] (hiz), 37 AD[26] (hiz), 38 AD[25] (hiz), 39 AD[24] (hiz), 42 C/~{BE}[3] (hiz), 43 IDSEL (in), 44 AD[23] (hiz), 45 AD[22] (hiz), 47 AD[21] (hiz), 48 AD[20] (hiz), 49 AD[19] (hiz), 52 AD[18] (hiz), 53 AD[17] (hiz), 54 AD[16] (hiz), 55 C/~{BE}[2] (hiz), 57 ~{FRAME} (hiz), 58 ~{IRDY} (hiz), 59 ~{TRDY} (hiz), 62 ~{DEVSEL} (hiz), 63 ~{STOP} (hiz), 64 ~{PERR} (hiz), 66 ~{SERR} (oc), 67 PAR (hiz), 68 C/~{BE}[1] (hiz), 69 AD[15] (hiz), 72 AD[14] (hiz), 73 AD[13] (hiz), 74 AD[12] (hiz), 75 AD[11] (hiz), 76 AD[10] (hiz), 77 AD[9] (hiz), 78 AD[8] (hiz), 82 C/~{BE}[0] (hiz), 83 AD[7] (hiz), 84 AD[6] (hiz), 85 AD[5] (hiz), 86 AD[4] (hiz), 89 AD[3] (hiz), 90 AD[2] (hiz), 91 AD[1] (hiz), 92 AD[0] (hiz), 95 DQ[0] (io), 96 DQ[1] (io), 97 DQ[2] (io), 98 DQ[3] (io), 99 DQ[4] (io), 100 DQ[5] (io), 101 DQ[6] (io), 104 DQ[7] (io), 105 DQ[8] (io), 106 DQ[9] (io), 107 DQ[10] (io), 108 DQ[11] (io), 109 DQ[12] (io), 110 DQ[13] (io), 113 DQ[14] (io), 114 DQ[15] (io), 115 DQ[16] (io), 116 DQ[17] (io), 117 DQ[18] (io), 118 DQ[19] (io), 119 DQ[20] (io), 122 DQ[21] (io), 123 DQ[22] (io), 124 DQ[23] (io), 125 DQ[24] (io), 126 DQ[25] (io), 127 DQ[26] (io), 128 DQ[27] (io), 129 DQ[28] (io), 132 DQ[29] (io), 133 DQ[30] (io), 134 DQ[31] (io), 136 ~{BLAST} (in), 137 ~{READ} (in), 138 ~{WRTE} (in), 139 RDY_IN (in), 140 ~{RDY_IN} (in), 141 ~{RDY_OUT} (out), 142 PCLKOUT0 (out), 143 PCLKOUT1 (out), 144 PCLKOUT2 (out), 146 CLKIN (in), 149 ~{BE}[3] (in), 150 ~{BE}[2] (in), 151 ~{BE}[1] (in), 152 ~{BE}[0] (in), 153 ~{STROBE} (in), 154 ADR[14] (in), 155 ADR[13] (in), 156 ADR[12] (in), 157 ADR[11] (in), 158 ADR[10] (in), 159 ADR[9] (in)
part B pins: 1 VDD1 (power), 9 VSS1 (power), 13 VSS2 (power), 14 VDD2 (power), 18 VSS3 (power), 26 VSSP1 (power), 27 VDDP1 (power), 33 VSSP2 (power), 34 VDDP2 (power), 40 VDDP3 (power), 41 VSSP3 (power), 46 NC1, 50 VSSP4 (power), 51 VDDP4 (power), 56 NC2, 60 VSSP5 (power), 61 VDDP5 (power), 65 NC3, 70 VSSP6 (power), 71 VDDP6 (power), 79 NC4, 80 VSSP7 (power), 81 VDDP7 (power), 87 VSSP8 (power), 88 VDDP8 (power), 93 VSS4 (power), 94 VDD3 (power), 102 VSS5 (power), 103 VDD4 (power), 111 VSS6 (power), 112 VDD5 (power), 120 VSS7 (power), 121 VDD6 (power), 130 VSS8 (power), 131 VDD7 (power), 135 VSS9 (power), 145 VSS10 (power), 147 VSS11 (power), 148 VDD8 (power), 160 VSS12 (power)

## CY62256-55PC
designator U?
32K x 8 Static RAM; Published: 11-Dec-2002; LatestRevisionDate: 04-Mar-2005; LatestRevisionNote: Stylized 3D Model Added.; DatasheetVersion: 26-Nov-1997; PackageVersion: Nov-1997; PackageReference: P15; Publisher: Altium Limited; PackageDescription: DIP, Molded; 28 Leads; Row Spacing 15.24 mm; Pitch 2.54 mm; ComponentLink1Description: Manufacturer Link; ComponentLink1URL: http://www.cypress.com/; ComponentLink2Description: Datasheet; ComponentLink2URL: http://www.cypress.com/portal/server.pt/gateway/PTARGS_0_2_1524_209_259_43/http%3B/sjapp20.mis.cypress.com%3B7001/publishedcontent/publish/design_resources/datasheets/contents/cy62256_5.pdf
footprint P15 (DIP, Molded; 28 Leads; Row Spacing 15.24 mm; Pitch 2.54 mm)
3D model P15 (DIP, Molded; 28 Leads; Row Spacing 15.24 mm; Pitch 2.54 mm)
pins: 1 A5 (in), 2 A6 (in), 3 A7 (in), 4 A8 (in), 5 A9 (in), 6 A10 (in), 7 A11 (in), 8 A12 (in), 9 A13 (in), 10 A14 (in), 11 I/O0 (io), 12 I/O1 (io), 13 I/O2 (io), 14 GND (power), 15 I/O3 (io), 16 I/O4 (io), 17 I/O5 (io), 18 I/O6 (io), 19 I/O7 (io), 20 ~{CE} (in), 21 A0 (in), 22 ~{OE} (in), 23 A1 (in), 24 A2 (in), 25 A3 (in), 26 A4 (in), 27 ~{WE} (in), 28 VCC (power)

## CY62256-55SNC
designator U?
32K x 8 Static RAM; Published: 11-Dec-2002; LatestRevisionDate: 13-Apr-2006; LatestRevisionNote: IPC-7351 Footprint Added.; DatasheetVersion: 26-Nov-1997; PackageVersion: Nov-1997; PackageReference: S22; Publisher: Altium Limited; PackageDescription: 28-Pin Plastic Small Outline Integrated Circuit 1.27 mm Pitch; Code_JEDEC: MO-120-AB; ComponentLink1Description: Manufacturer Link; ComponentLink1URL: http://www.cypress.com/; ComponentLink2Description: Datasheet; ComponentLink2URL: http://www.cypress.com/portal/server.pt/gateway/PTARGS_0_2_1524_209_259_43/http%3B/sjapp20.mis.cypress.com%3B7001/publishedcontent/publish/design_resources/datasheets/contents/cy62256_5.pdf
footprint S22_N (SOIC, 28-Leads, Body 18.4x7.5mm, Pitch 1.27mm, IPC Medium Density)
footprint S22_L (SOIC, 28-Leads, Body 18.4x7.5mm, Pitch 1.27mm, IPC High Density)
footprint S22_M (SOIC, 28-Leads, Body 18.4x7.5mm, Pitch 1.27mm, IPC Low Density)
3D model S22 (28-Pin Plastic Small Outline Integrated Circuit 1.27 mm Pitch)
pins: 1 A5 (in), 2 A6 (in), 3 A7 (in), 4 A8 (in), 5 A9 (in), 6 A10 (in), 7 A11 (in), 8 A12 (in), 9 A13 (in), 10 A14 (in), 11 I/O0 (io), 12 I/O1 (io), 13 I/O2 (io), 14 GND (power), 15 I/O3 (io), 16 I/O4 (io), 17 I/O5 (io), 18 I/O6 (io), 19 I/O7 (io), 20 ~{CE} (in), 21 A0 (in), 22 ~{OE} (in), 23 A1 (in), 24 A2 (in), 25 A3 (in), 26 A4 (in), 27 ~{WE} (in), 28 VCC (power)

## CY62256-55ZC
designator U?
32K x 8 Static RAM; Published: 11-Dec-2002; LatestRevisionDate: 16-Oct-2006; LatestRevisionNote: Footprint pinout fixed.; DatasheetVersion: 26-Nov-1997; PackageVersion: revG, Nov-2000; PackageReference: Z28; Publisher: Altium Limited; PackageDescription: 28-Pin Thin Small Outline Package Type 1 - 8 x 13.4 mm; ComponentLink1Description: Manufacturer Link; ComponentLink1URL: http://www.cypress.com/; ComponentLink2Description: Datasheet; ComponentLink2URL: http://www.cypress.com/portal/server.pt/gateway/PTARGS_0_2_1524_209_259_43/http%3B/sjapp20.mis.cypress.com%3B7001/publishedcontent/publish/design_resources/datasheets/contents/cy62256_5.pdf
footprint Z28_N (TSSOP, 28-Leads, Body 8x11.8mm, Pitch 0.55mm, Unconventional Pinout, IPC Medium Density)
footprint Z28_L (TSSOP, 28-Leads, Body 8x11.8mm, Pitch 0.55mm, Unconventional Pinout, IPC High Density)
footprint Z28_M (TSSOP, 28-Leads, Body 8x11.8mm, Pitch 0.55mm, Unconventional Pinout, IPC Low Density)
3D model Z28 (28-Pin Thin Small Outline Package Type 1 - 8 x 13.4 mm)
pins: 1 A5 (in), 2 A6 (in), 3 A7 (in), 4 A8 (in), 5 A9 (in), 6 A10 (in), 7 A11 (in), 8 A12 (in), 9 A13 (in), 10 A14 (in), 11 I/O0 (io), 12 I/O1 (io), 13 I/O2 (io), 14 GND (power), 15 I/O3 (io), 16 I/O4 (io), 17 I/O5 (io), 18 I/O6 (io), 19 I/O7 (io), 20 ~{CE} (in), 21 A0 (in), 22 ~{OE} (in), 23 A1 (in), 24 A2 (in), 25 A3 (in), 26 A4 (in), 27 ~{WE} (in), 28 VCC (power)

## CY62256-55ZRC
designator U?
32K x 8 Static RAM; Published: 11-Dec-2002; LatestRevisionDate: 16-Oct-2006; LatestRevisionNote: Footprint pinout fixed.; DatasheetVersion: 26-Nov-1997; PackageVersion: revG, Nov-2000; PackageReference: ZR28; Publisher: Altium Limited; PackageDescription: 28-Pin Reverse Type 1Thin Small Outline Package - 8 x 13.4 mm; ComponentLink1Description: Manufacturer Link; ComponentLink1URL: http://www.cypress.com/; ComponentLink2Description: Datasheet; ComponentLink2URL: http://www.cypress.com/portal/server.pt/gateway/PTARGS_0_2_1524_209_259_43/http%3B/sjapp20.mis.cypress.com%3B7001/publishedcontent/publish/design_resources/datasheets/contents/cy62256_5.pdf
footprint ZR28_N (TSSOP, 28-Leads, Body 8x11.8mm, Pitch 0.55mm, Reverse Pinning, IPC Medium Density)
footprint ZR28_L (TSSOP, 28-Leads, Body 8x11.8mm, Pitch 0.55mm, Reverse Pinning, IPC High Density)
footprint ZR28_M (TSSOP, 28-Leads, Body 8x11.8mm, Pitch 0.55mm, Reverse Pinning, IPC Low Density)
3D model Z28 (28-Pin Reverse Type 1Thin Small Outline Package - 8 x 13.4 mm)
pins: 1 A5 (in), 2 A6 (in), 3 A7 (in), 4 A8 (in), 5 A9 (in), 6 A10 (in), 7 A11 (in), 8 A12 (in), 9 A13 (in), 10 A14 (in), 11 I/O0 (io), 12 I/O1 (io), 13 I/O2 (io), 14 GND (power), 15 I/O3 (io), 16 I/O4 (io), 17 I/O5 (io), 18 I/O6 (io), 19 I/O7 (io), 20 ~{CE} (in), 21 A0 (in), 22 ~{OE} (in), 23 A1 (in), 24 A2 (in), 25 A3 (in), 26 A4 (in), 27 ~{WE} (in), 28 VCC (power)

## CY62256-70PC
designator U?
32K x 8 Static RAM; Published: 11-Dec-2002; LatestRevisionDate: 04-Mar-2005; LatestRevisionNote: Stylized 3D Model Added.; DatasheetVersion: 26-Nov-1997; PackageVersion: Nov-1997; PackageReference: P15; Publisher: Altium Limited; PackageDescription: DIP, Molded; 28 Leads; Row Spacing 15.24 mm; Pitch 2.54 mm; ComponentLink1Description: Manufacturer Link; ComponentLink1URL: http://www.cypress.com/; ComponentLink2Description: Datasheet; ComponentLink2URL: http://www.cypress.com/portal/server.pt/gateway/PTARGS_0_2_1524_209_259_43/http%3B/sjapp20.mis.cypress.com%3B7001/publishedcontent/publish/design_resources/datasheets/contents/cy62256_5.pdf
footprint P15 (DIP, Molded; 28 Leads; Row Spacing 15.24 mm; Pitch 2.54 mm)
3D model P15 (DIP, Molded; 28 Leads; Row Spacing 15.24 mm; Pitch 2.54 mm)
pins: 1 A5 (in), 2 A6 (in), 3 A7 (in), 4 A8 (in), 5 A9 (in), 6 A10 (in), 7 A11 (in), 8 A12 (in), 9 A13 (in), 10 A14 (in), 11 I/O0 (io), 12 I/O1 (io), 13 I/O2 (io), 14 GND (power), 15 I/O3 (io), 16 I/O4 (io), 17 I/O5 (io), 18 I/O6 (io), 19 I/O7 (io), 20 ~{CE} (in), 21 A0 (in), 22 ~{OE} (in), 23 A1 (in), 24 A2 (in), 25 A3 (in), 26 A4 (in), 27 ~{WE} (in), 28 VCC (power)

## CY62256-70SNC
designator U?
32K x 8 Static RAM; Published: 11-Dec-2002; LatestRevisionDate: 13-Apr-2006; LatestRevisionNote: IPC-7351 Footprint Added.; DatasheetVersion: 26-Nov-1997; PackageVersion: Nov-1997; PackageReference: S22; Publisher: Altium Limited; PackageDescription: 28-Pin Plastic Small Outline Integrated Circuit 1.27 mm Pitch; Code_JEDEC: MO-120-AB; ComponentLink1Description: Manufacturer Link; ComponentLink1URL: http://www.cypress.com/; ComponentLink2Description: Datasheet; ComponentLink2URL: http://www.cypress.com/portal/server.pt/gateway/PTARGS_0_2_1524_209_259_43/http%3B/sjapp20.mis.cypress.com%3B7001/publishedcontent/publish/design_resources/datasheets/contents/cy62256_5.pdf
footprint S22_N (SOIC, 28-Leads, Body 18.4x7.5mm, Pitch 1.27mm, IPC Medium Density)
footprint S22_L (SOIC, 28-Leads, Body 18.4x7.5mm, Pitch 1.27mm, IPC High Density)
footprint S22_M (SOIC, 28-Leads, Body 18.4x7.5mm, Pitch 1.27mm, IPC Low Density)
3D model S22 (28-Pin Plastic Small Outline Integrated Circuit 1.27 mm Pitch)
pins: 1 A5 (in), 2 A6 (in), 3 A7 (in), 4 A8 (in), 5 A9 (in), 6 A10 (in), 7 A11 (in), 8 A12 (in), 9 A13 (in), 10 A14 (in), 11 I/O0 (io), 12 I/O1 (io), 13 I/O2 (io), 14 GND (power), 15 I/O3 (io), 16 I/O4 (io), 17 I/O5 (io), 18 I/O6 (io), 19 I/O7 (io), 20 ~{CE} (in), 21 A0 (in), 22 ~{OE} (in), 23 A1 (in), 24 A2 (in), 25 A3 (in), 26 A4 (in), 27 ~{WE} (in), 28 VCC (power)

## CY62256-70SNI
designator U?
32K x 8 Static RAM; Published: 11-Dec-2002; LatestRevisionDate: 13-Apr-2006; LatestRevisionNote: IPC-7351 Footprint Added.; DatasheetVersion: 26-Nov-1997; PackageVersion: Nov-1997; PackageReference: S22; Publisher: Altium Limited; PackageDescription: 28-Pin Plastic Small Outline Integrated Circuit 1.27 mm Pitch; Code_JEDEC: MO-120-AB; ComponentLink1Description: Manufacturer Link; ComponentLink1URL: http://www.cypress.com/; ComponentLink2Description: Datasheet; ComponentLink2URL: http://www.cypress.com/portal/server.pt/gateway/PTARGS_0_2_1524_209_259_43/http%3B/sjapp20.mis.cypress.com%3B7001/publishedcontent/publish/design_resources/datasheets/contents/cy62256_5.pdf
footprint S22_N (SOIC, 28-Leads, Body 18.4x7.5mm, Pitch 1.27mm, IPC Medium Density)
footprint S22_L (SOIC, 28-Leads, Body 18.4x7.5mm, Pitch 1.27mm, IPC High Density)
footprint S22_M (SOIC, 28-Leads, Body 18.4x7.5mm, Pitch 1.27mm, IPC Low Density)
3D model S22 (28-Pin Plastic Small Outline Integrated Circuit 1.27 mm Pitch)
pins: 1 A5 (in), 2 A6 (in), 3 A7 (in), 4 A8 (in), 5 A9 (in), 6 A10 (in), 7 A11 (in), 8 A12 (in), 9 A13 (in), 10 A14 (in), 11 I/O0 (io), 12 I/O1 (io), 13 I/O2 (io), 14 GND (power), 15 I/O3 (io), 16 I/O4 (io), 17 I/O5 (io), 18 I/O6 (io), 19 I/O7 (io), 20 ~{CE} (in), 21 A0 (in), 22 ~{OE} (in), 23 A1 (in), 24 A2 (in), 25 A3 (in), 26 A4 (in), 27 ~{WE} (in), 28 VCC (power)

## CY62256-70ZC
designator U?
32K x 8 Static RAM; Published: 11-Dec-2002; LatestRevisionDate: 16-Oct-2006; LatestRevisionNote: Footprint pinout fixed.; DatasheetVersion: 26-Nov-1997; PackageVersion: revG, Nov-2000; PackageReference: Z28; Publisher: Altium Limited; PackageDescription: 28-Pin Thin Small Outline Package Type 1 - 8 x 13.4 mm; ComponentLink1Description: Manufacturer Link; ComponentLink1URL: http://www.cypress.com/; ComponentLink2Description: Datasheet; ComponentLink2URL: http://www.cypress.com/portal/server.pt/gateway/PTARGS_0_2_1524_209_259_43/http%3B/sjapp20.mis.cypress.com%3B7001/publishedcontent/publish/design_resources/datasheets/contents/cy62256_5.pdf
footprint Z28_N (TSSOP, 28-Leads, Body 8x11.8mm, Pitch 0.55mm, Unconventional Pinout, IPC Medium Density)
footprint Z28_L (TSSOP, 28-Leads, Body 8x11.8mm, Pitch 0.55mm, Unconventional Pinout, IPC High Density)
footprint Z28_M (TSSOP, 28-Leads, Body 8x11.8mm, Pitch 0.55mm, Unconventional Pinout, IPC Low Density)
3D model Z28 (28-Pin Thin Small Outline Package Type 1 - 8 x 13.4 mm)
pins: 1 A5 (in), 2 A6 (in), 3 A7 (in), 4 A8 (in), 5 A9 (in), 6 A10 (in), 7 A11 (in), 8 A12 (in), 9 A13 (in), 10 A14 (in), 11 I/O0 (io), 12 I/O1 (io), 13 I/O2 (io), 14 GND (power), 15 I/O3 (io), 16 I/O4 (io), 17 I/O5 (io), 18 I/O6 (io), 19 I/O7 (io), 20 ~{CE} (in), 21 A0 (in), 22 ~{OE} (in), 23 A1 (in), 24 A2 (in), 25 A3 (in), 26 A4 (in), 27 ~{WE} (in), 28 VCC (power)

## CY62256-70ZI
designator U?
32K x 8 Static RAM; Published: 11-Dec-2002; LatestRevisionDate: 16-Oct-2006; LatestRevisionNote: Footprint pinout fixed.; DatasheetVersion: 26-Nov-1997; PackageVersion: revG, Nov-2000; PackageReference: Z28; Publisher: Altium Limited; PackageDescription: 28-Pin Thin Small Outline Package Type 1 - 8 x 13.4 mm; ComponentLink1Description: Manufacturer Link; ComponentLink1URL: http://www.cypress.com/; ComponentLink2Description: Datasheet; ComponentLink2URL: http://www.cypress.com/portal/server.pt/gateway/PTARGS_0_2_1524_209_259_43/http%3B/sjapp20.mis.cypress.com%3B7001/publishedcontent/publish/design_resources/datasheets/contents/cy62256_5.pdf
footprint Z28_N (TSSOP, 28-Leads, Body 8x11.8mm, Pitch 0.55mm, Unconventional Pinout, IPC Medium Density)
footprint Z28_L (TSSOP, 28-Leads, Body 8x11.8mm, Pitch 0.55mm, Unconventional Pinout, IPC High Density)
footprint Z28_M (TSSOP, 28-Leads, Body 8x11.8mm, Pitch 0.55mm, Unconventional Pinout, IPC Low Density)
3D model Z28 (28-Pin Thin Small Outline Package Type 1 - 8 x 13.4 mm)
pins: 1 A5 (in), 2 A6 (in), 3 A7 (in), 4 A8 (in), 5 A9 (in), 6 A10 (in), 7 A11 (in), 8 A12 (in), 9 A13 (in), 10 A14 (in), 11 I/O0 (io), 12 I/O1 (io), 13 I/O2 (io), 14 GND (power), 15 I/O3 (io), 16 I/O4 (io), 17 I/O5 (io), 18 I/O6 (io), 19 I/O7 (io), 20 ~{CE} (in), 21 A0 (in), 22 ~{OE} (in), 23 A1 (in), 24 A2 (in), 25 A3 (in), 26 A4 (in), 27 ~{WE} (in), 28 VCC (power)

## CY62256-70ZRC
designator U?
32K x 8 Static RAM; Published: 11-Dec-2002; LatestRevisionDate: 16-Oct-2006; LatestRevisionNote: Footprint pinout fixed.; DatasheetVersion: 26-Nov-1997; PackageVersion: revG, Nov-2000; PackageReference: ZR28; Publisher: Altium Limited; PackageDescription: 28-Pin Reverse Type 1Thin Small Outline Package - 8 x 13.4 mm; ComponentLink1Description: Manufacturer Link; ComponentLink1URL: http://www.cypress.com/; ComponentLink2Description: Datasheet; ComponentLink2URL: http://www.cypress.com/portal/server.pt/gateway/PTARGS_0_2_1524_209_259_43/http%3B/sjapp20.mis.cypress.com%3B7001/publishedcontent/publish/design_resources/datasheets/contents/cy62256_5.pdf
footprint ZR28_N (TSSOP, 28-Leads, Body 8x11.8mm, Pitch 0.55mm, Reverse Pinning, IPC Medium Density)
footprint ZR28_L (TSSOP, 28-Leads, Body 8x11.8mm, Pitch 0.55mm, Reverse Pinning, IPC High Density)
footprint ZR28_M (TSSOP, 28-Leads, Body 8x11.8mm, Pitch 0.55mm, Reverse Pinning, IPC Low Density)
3D model Z28 (28-Pin Reverse Type 1Thin Small Outline Package - 8 x 13.4 mm)
pins: 1 A5 (in), 2 A6 (in), 3 A7 (in), 4 A8 (in), 5 A9 (in), 6 A10 (in), 7 A11 (in), 8 A12 (in), 9 A13 (in), 10 A14 (in), 11 I/O0 (io), 12 I/O1 (io), 13 I/O2 (io), 14 GND (power), 15 I/O3 (io), 16 I/O4 (io), 17 I/O5 (io), 18 I/O6 (io), 19 I/O7 (io), 20 ~{CE} (in), 21 A0 (in), 22 ~{OE} (in), 23 A1 (in), 24 A2 (in), 25 A3 (in), 26 A4 (in), 27 ~{WE} (in), 28 VCC (power)

## CY62256L-55SNC
designator U?
32K x 8 Static RAM; Published: 11-Dec-2002; LatestRevisionDate: 13-Apr-2006; LatestRevisionNote: IPC-7351 Footprint Added.; DatasheetVersion: 26-Nov-1997; PackageVersion: Nov-1997; PackageReference: S22; Publisher: Altium Limited; PackageDescription: 28-Pin Plastic Small Outline Integrated Circuit 1.27 mm Pitch; Code_JEDEC: MO-120-AB; ComponentLink1Description: Manufacturer Link; ComponentLink1URL: http://www.cypress.com/; ComponentLink2Description: Datasheet; ComponentLink2URL: http://www.cypress.com/portal/server.pt/gateway/PTARGS_0_2_1524_209_259_43/http%3B/sjapp20.mis.cypress.com%3B7001/publishedcontent/publish/design_resources/datasheets/contents/cy62256_5.pdf
footprint S22_N (SOIC, 28-Leads, Body 18.4x7.5mm, Pitch 1.27mm, IPC Medium Density)
footprint S22_L (SOIC, 28-Leads, Body 18.4x7.5mm, Pitch 1.27mm, IPC High Density)
footprint S22_M (SOIC, 28-Leads, Body 18.4x7.5mm, Pitch 1.27mm, IPC Low Density)
3D model S22 (28-Pin Plastic Small Outline Integrated Circuit 1.27 mm Pitch)
pins: 1 A5 (in), 2 A6 (in), 3 A7 (in), 4 A8 (in), 5 A9 (in), 6 A10 (in), 7 A11 (in), 8 A12 (in), 9 A13 (in), 10 A14 (in), 11 I/O0 (io), 12 I/O1 (io), 13 I/O2 (io), 14 GND (power), 15 I/O3 (io), 16 I/O4 (io), 17 I/O5 (io), 18 I/O6 (io), 19 I/O7 (io), 20 ~{CE} (in), 21 A0 (in), 22 ~{OE} (in), 23 A1 (in), 24 A2 (in), 25 A3 (in), 26 A4 (in), 27 ~{WE} (in), 28 VCC (power)

## CY62256L-55ZC
designator U?
32K x 8 Static RAM; Published: 11-Dec-2002; LatestRevisionDate: 16-Oct-2006; LatestRevisionNote: Footprint pinout fixed.; DatasheetVersion: 26-Nov-1997; PackageVersion: revG, Nov-2000; PackageReference: Z28; Publisher: Altium Limited; PackageDescription: 28-Pin Thin Small Outline Package Type 1 - 8 x 13.4 mm; ComponentLink1Description: Manufacturer Link; ComponentLink1URL: http://www.cypress.com/; ComponentLink2Description: Datasheet; ComponentLink2URL: http://www.cypress.com/portal/server.pt/gateway/PTARGS_0_2_1524_209_259_43/http%3B/sjapp20.mis.cypress.com%3B7001/publishedcontent/publish/design_resources/datasheets/contents/cy62256_5.pdf
footprint Z28_N (TSSOP, 28-Leads, Body 8x11.8mm, Pitch 0.55mm, Unconventional Pinout, IPC Medium Density)
footprint Z28_L (TSSOP, 28-Leads, Body 8x11.8mm, Pitch 0.55mm, Unconventional Pinout, IPC High Density)
footprint Z28_M (TSSOP, 28-Leads, Body 8x11.8mm, Pitch 0.55mm, Unconventional Pinout, IPC Low Density)
3D model Z28 (28-Pin Thin Small Outline Package Type 1 - 8 x 13.4 mm)
pins: 1 A5 (in), 2 A6 (in), 3 A7 (in), 4 A8 (in), 5 A9 (in), 6 A10 (in), 7 A11 (in), 8 A12 (in), 9 A13 (in), 10 A14 (in), 11 I/O0 (io), 12 I/O1 (io), 13 I/O2 (io), 14 GND (power), 15 I/O3 (io), 16 I/O4 (io), 17 I/O5 (io), 18 I/O6 (io), 19 I/O7 (io), 20 ~{CE} (in), 21 A0 (in), 22 ~{OE} (in), 23 A1 (in), 24 A2 (in), 25 A3 (in), 26 A4 (in), 27 ~{WE} (in), 28 VCC (power)

## CY62256L-55ZRC
designator U?
32K x 8 Static RAM; Published: 11-Dec-2002; LatestRevisionDate: 16-Oct-2006; LatestRevisionNote: Footprint pinout fixed.; DatasheetVersion: 26-Nov-1997; PackageVersion: revG, Nov-2000; PackageReference: ZR28; Publisher: Altium Limited; PackageDescription: 28-Pin Reverse Type 1Thin Small Outline Package - 8 x 13.4 mm; ComponentLink1Description: Manufacturer Link; ComponentLink1URL: http://www.cypress.com/; ComponentLink2Description: Datasheet; ComponentLink2URL: http://www.cypress.com/portal/server.pt/gateway/PTARGS_0_2_1524_209_259_43/http%3B/sjapp20.mis.cypress.com%3B7001/publishedcontent/publish/design_resources/datasheets/contents/cy62256_5.pdf
footprint ZR28_N (TSSOP, 28-Leads, Body 8x11.8mm, Pitch 0.55mm, Reverse Pinning, IPC Medium Density)
footprint ZR28_L (TSSOP, 28-Leads, Body 8x11.8mm, Pitch 0.55mm, Reverse Pinning, IPC High Density)
footprint ZR28_M (TSSOP, 28-Leads, Body 8x11.8mm, Pitch 0.55mm, Reverse Pinning, IPC Low Density)
3D model Z28 (28-Pin Reverse Type 1Thin Small Outline Package - 8 x 13.4 mm)
pins: 1 A5 (in), 2 A6 (in), 3 A7 (in), 4 A8 (in), 5 A9 (in), 6 A10 (in), 7 A11 (in), 8 A12 (in), 9 A13 (in), 10 A14 (in), 11 I/O0 (io), 12 I/O1 (io), 13 I/O2 (io), 14 GND (power), 15 I/O3 (io), 16 I/O4 (io), 17 I/O5 (io), 18 I/O6 (io), 19 I/O7 (io), 20 ~{CE} (in), 21 A0 (in), 22 ~{OE} (in), 23 A1 (in), 24 A2 (in), 25 A3 (in), 26 A4 (in), 27 ~{WE} (in), 28 VCC (power)

## CY62256L-70PC
designator U?
32K x 8 Static RAM; Published: 11-Dec-2002; LatestRevisionDate: 04-Mar-2005; LatestRevisionNote: Stylized 3D Model Added.; DatasheetVersion: 26-Nov-1997; PackageVersion: Nov-1997; PackageReference: P15; Publisher: Altium Limited; PackageDescription: DIP, Molded; 28 Leads; Row Spacing 15.24 mm; Pitch 2.54 mm; ComponentLink1Description: Manufacturer Link; ComponentLink1URL: http://www.cypress.com/; ComponentLink2Description: Datasheet; ComponentLink2URL: http://www.cypress.com/portal/server.pt/gateway/PTARGS_0_2_1524_209_259_43/http%3B/sjapp20.mis.cypress.com%3B7001/publishedcontent/publish/design_resources/datasheets/contents/cy62256_5.pdf
footprint P15 (DIP, Molded; 28 Leads; Row Spacing 15.24 mm; Pitch 2.54 mm)
3D model P15 (DIP, Molded; 28 Leads; Row Spacing 15.24 mm; Pitch 2.54 mm)
pins: 1 A5 (in), 2 A6 (in), 3 A7 (in), 4 A8 (in), 5 A9 (in), 6 A10 (in), 7 A11 (in), 8 A12 (in), 9 A13 (in), 10 A14 (in), 11 I/O0 (io), 12 I/O1 (io), 13 I/O2 (io), 14 GND (power), 15 I/O3 (io), 16 I/O4 (io), 17 I/O5 (io), 18 I/O6 (io), 19 I/O7 (io), 20 ~{CE} (in), 21 A0 (in), 22 ~{OE} (in), 23 A1 (in), 24 A2 (in), 25 A3 (in), 26 A4 (in), 27 ~{WE} (in), 28 VCC (power)

## CY62256L-70SNC
designator U?
32K x 8 Static RAM; Published: 11-Dec-2002; LatestRevisionDate: 13-Apr-2006; LatestRevisionNote: IPC-7351 Footprint Added.; DatasheetVersion: 26-Nov-1997; PackageVersion: Nov-1997; PackageReference: S22; Publisher: Altium Limited; PackageDescription: 28-Pin Plastic Small Outline Integrated Circuit 1.27 mm Pitch; Code_JEDEC: MO-120-AB; ComponentLink1Description: Manufacturer Link; ComponentLink1URL: http://www.cypress.com/; ComponentLink2Description: Datasheet; ComponentLink2URL: http://www.cypress.com/portal/server.pt/gateway/PTARGS_0_2_1524_209_259_43/http%3B/sjapp20.mis.cypress.com%3B7001/publishedcontent/publish/design_resources/datasheets/contents/cy62256_5.pdf
footprint S22_N (SOIC, 28-Leads, Body 18.4x7.5mm, Pitch 1.27mm, IPC Medium Density)
footprint S22_L (SOIC, 28-Leads, Body 18.4x7.5mm, Pitch 1.27mm, IPC High Density)
footprint S22_M (SOIC, 28-Leads, Body 18.4x7.5mm, Pitch 1.27mm, IPC Low Density)
3D model S22 (28-Pin Plastic Small Outline Integrated Circuit 1.27 mm Pitch)
pins: 1 A5 (in), 2 A6 (in), 3 A7 (in), 4 A8 (in), 5 A9 (in), 6 A10 (in), 7 A11 (in), 8 A12 (in), 9 A13 (in), 10 A14 (in), 11 I/O0 (io), 12 I/O1 (io), 13 I/O2 (io), 14 GND (power), 15 I/O3 (io), 16 I/O4 (io), 17 I/O5 (io), 18 I/O6 (io), 19 I/O7 (io), 20 ~{CE} (in), 21 A0 (in), 22 ~{OE} (in), 23 A1 (in), 24 A2 (in), 25 A3 (in), 26 A4 (in), 27 ~{WE} (in), 28 VCC (power)

## CY62256L-70SNI
designator U?
32K x 8 Static RAM; Published: 11-Dec-2002; LatestRevisionDate: 13-Apr-2006; LatestRevisionNote: IPC-7351 Footprint Added.; DatasheetVersion: 26-Nov-1997; PackageVersion: Nov-1997; PackageReference: S22; Publisher: Altium Limited; PackageDescription: 28-Pin Plastic Small Outline Integrated Circuit 1.27 mm Pitch; Code_JEDEC: MO-120-AB; ComponentLink1Description: Manufacturer Link; ComponentLink1URL: http://www.cypress.com/; ComponentLink2Description: Datasheet; ComponentLink2URL: http://www.cypress.com/portal/server.pt/gateway/PTARGS_0_2_1524_209_259_43/http%3B/sjapp20.mis.cypress.com%3B7001/publishedcontent/publish/design_resources/datasheets/contents/cy62256_5.pdf
footprint S22_N (SOIC, 28-Leads, Body 18.4x7.5mm, Pitch 1.27mm, IPC Medium Density)
footprint S22_L (SOIC, 28-Leads, Body 18.4x7.5mm, Pitch 1.27mm, IPC High Density)
footprint S22_M (SOIC, 28-Leads, Body 18.4x7.5mm, Pitch 1.27mm, IPC Low Density)
3D model S22 (28-Pin Plastic Small Outline Integrated Circuit 1.27 mm Pitch)
pins: 1 A5 (in), 2 A6 (in), 3 A7 (in), 4 A8 (in), 5 A9 (in), 6 A10 (in), 7 A11 (in), 8 A12 (in), 9 A13 (in), 10 A14 (in), 11 I/O0 (io), 12 I/O1 (io), 13 I/O2 (io), 14 GND (power), 15 I/O3 (io), 16 I/O4 (io), 17 I/O5 (io), 18 I/O6 (io), 19 I/O7 (io), 20 ~{CE} (in), 21 A0 (in), 22 ~{OE} (in), 23 A1 (in), 24 A2 (in), 25 A3 (in), 26 A4 (in), 27 ~{WE} (in), 28 VCC (power)